# Altium schematic symbol library buck_converter.SchLib: 1 symbol
Pins are listed as number, name and electrical type; pins without a type are passive.

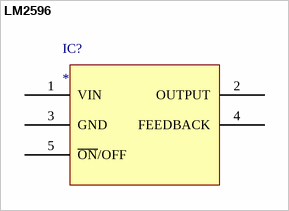
[diagram p0: symbol LM2596]

## LM2596
designator IC?
Buck Converter
footprint D2PAK
pins: 1 VIN, 2 OUTPUT, 3 GND, 4 FEEDBACK, 5 ~{ON}/OFF